# Altium footprint library THT Capacitor.PcbLib: 1 footprints
Each footprint in its own frame and in the unit in brackets; x right, y up, seen from the top. Pads: shape width x height; smd on the part's side, far side on the other; paste and mask are expansions set on the pad; w line width, h text height; cw(c..) or ccw(c..) is an arc to the next point about the centre after c.
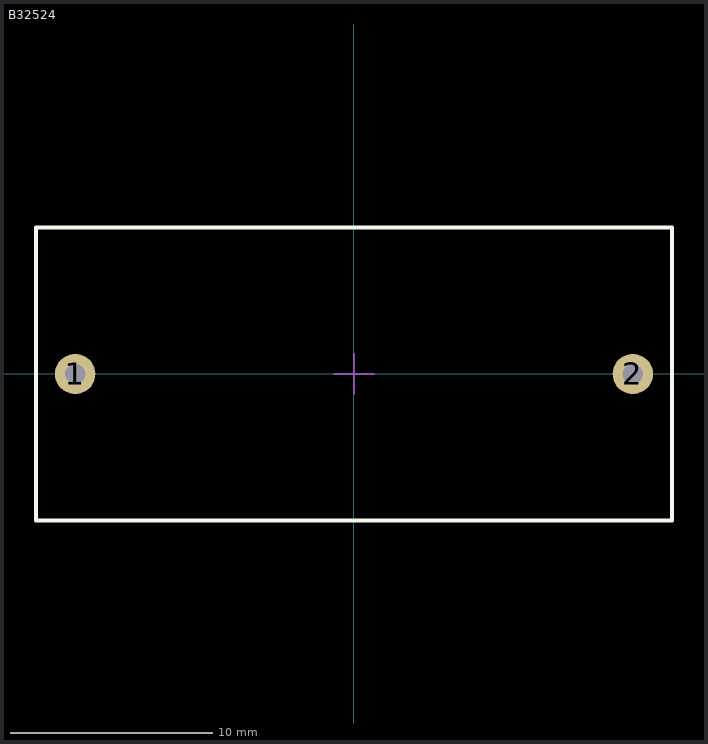
[diagram p0: the footprint, top view; thin cyan lines are the x and y axes]

## B32524 [mm] "Пленочные конденсаторы 400VDC MKT L/S=27.5mm"
height 24.5
pads (2):
  round 2 hole 1: 1(-13.8,0) 2(13.8,0)
Top Overlay:
  lines w0.2: -15.75,-7.25 15.75,-7.25 15.75,7.25 -15.75,7.25 -15.75,-7.25
Mechanical 15:
  lines w0.1: -1,0 1,0 ; 0,-1 0,1 ; -15.75,-7.25 15.75,-7.25 15.75,7.25 -15.75,7.25 -15.75,-7.25
  text "'.Designator'" at -3.8,2.282 h1.5